# Altium integrated library ON Semi Signal Management Operational Amplifiers.IntLib: 435 symbols (part 8 of 12)
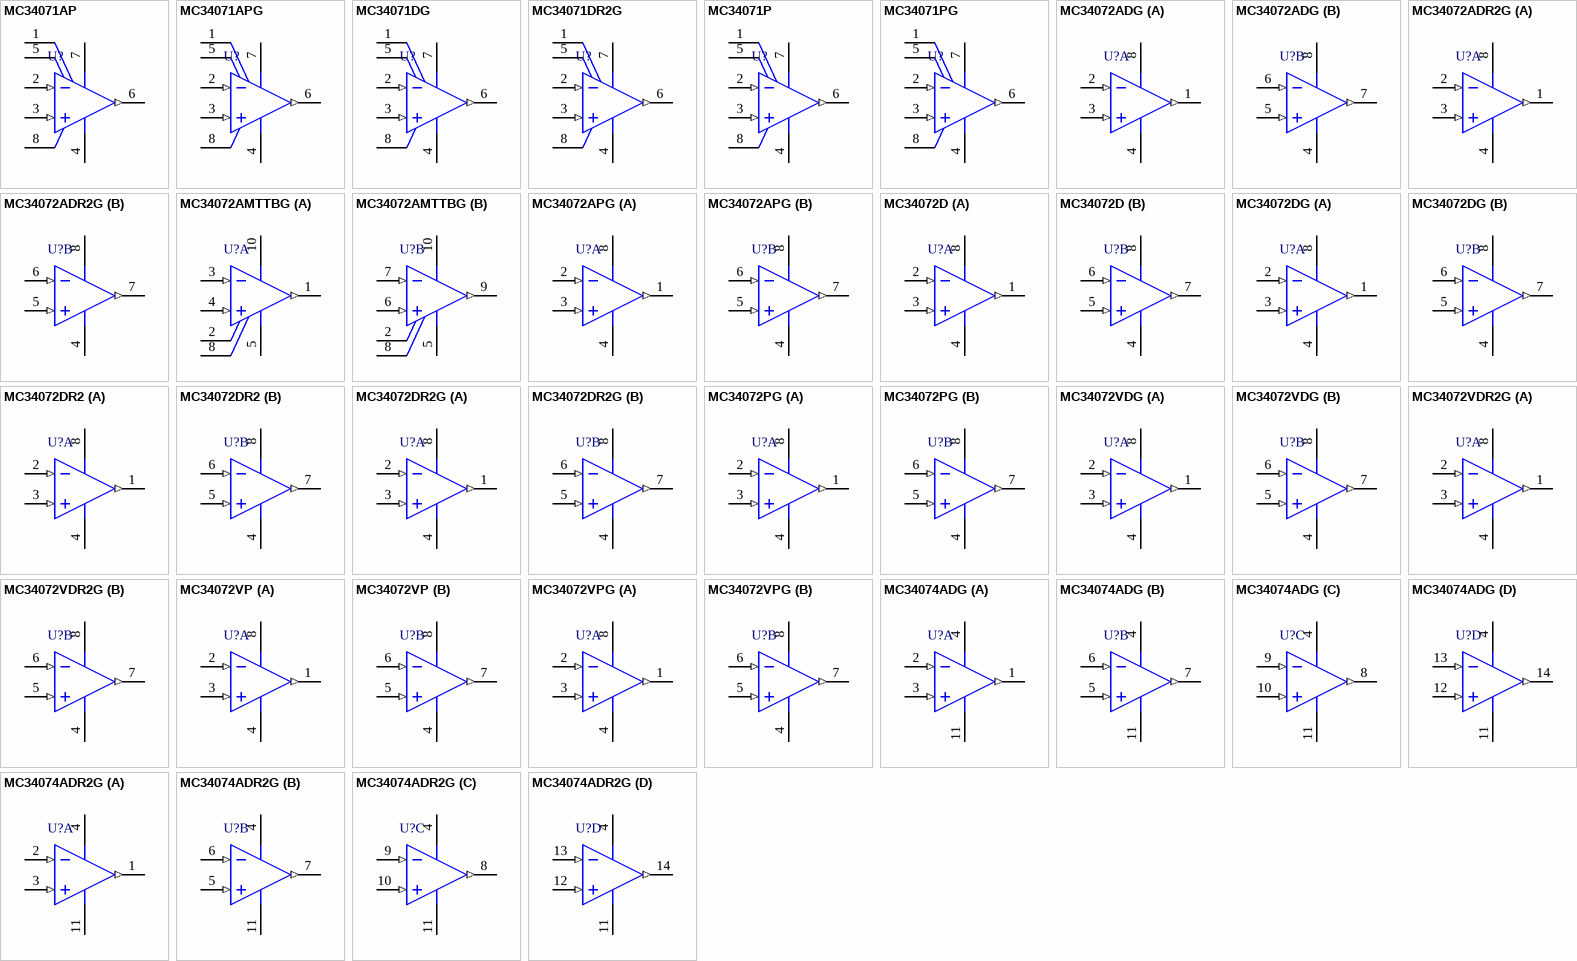
[diagram p32: symbols MC34071AP to MC34074ADR2G]

## MC34072DG
designator U?
Single Supply Operational Amplifier, 3 to 44 V, 0 to 70 degC, 8-Pin SOIC, Pb-Free, Tube; Manufacturer: On Semiconductor; PartNumber: MC34072DG; GBW Typ (MHz): 4.5; VCC Max (V): 44; VCC Min (V): 3; DatasheetVersion: Rev. 22; PackageVersion: Rev. AK, 02/2011; PackageReference: SOIC-8-751-07; PackageDescription: 8-Pin Small Outline Integrated Circuit, Body 4.9 x 3.9 mm, Pitch 1.27 mm; Supplier 1: Digi-Key; Supplier Part Number 1: MC34072DGOS-ND; Supplier 2: Farnell; Supplier Part Number 2: 9664416; Supplier 3: Newark; Supplier Part Number 3: 88H4732; Supplier 4: Mouser; Supplier Part Number 4: 863-MC34072DG; Packing: Tube; RoHS: TRUE; Mounting Technology: Surface Mount; ComponentLink1Description: Manufacturer URL; ComponentLink1URL: http://www.onsemi.com/; ComponentLink2Description: Datasheet; ComponentLink2URL: http://www.onsemi.cn/pub_link/Collateral/MC34071-D.PDF; ComponentLink3Description: Package Specification; ComponentLink3URL: http://www.onsemi.com/pub_link/Collateral/751-07.PDF
footprint ONSC-SOIC-8-751-07_V (SOIC, 8-Leads, Body 4.9x3.9mm, Pitch 1.27mm)
pins on every part: 4 VEE (power), 8 VCC (power)
part A pins: 1 OUT1 (out), 2 IN1- (in), 3 IN1+ (in)
part B pins: 5 IN2+ (in), 6 IN2- (in), 7 OUT2 (out)

## MC34072DR2
designator U?
Single Supply Operational Amplifier, 3 to 44 V, 0 to 70 degC, 8-Pin SOIC, Tape and Reel; Manufacturer: On Semiconductor; PartNumber: MC34072DR2; GBW Typ (MHz): 4.5; VCC Max (V): 44; VCC Min (V): 3; DatasheetVersion: Rev. 22; PackageVersion: Rev. AK, 02/2011; PackageReference: SOIC-8-751-07; PackageDescription: 8-Pin Small Outline Integrated Circuit, Body 4.9 x 3.9 mm, Pitch 1.27 mm; Supplier 1: Digi-Key; Supplier Part Number 1: MC34072DR2OSCT-ND; Packing: Tape and Reel; RoHS: FALSE; Mounting Technology: Surface Mount; ComponentLink1Description: Manufacturer URL; ComponentLink1URL: http://www.onsemi.com/; ComponentLink2Description: Datasheet; ComponentLink2URL: http://www.onsemi.cn/pub_link/Collateral/MC34071-D.PDF; ComponentLink3Description: Package Specification; ComponentLink3URL: http://www.onsemi.com/pub_link/Collateral/751-07.PDF
footprint ONSC-SOIC-8-751-07_V (SOIC, 8-Leads, Body 4.9x3.9mm, Pitch 1.27mm)
pins on every part: 4 VEE (power), 8 VCC (power)
part A pins: 1 OUT1 (out), 2 IN1- (in), 3 IN1+ (in)
part B pins: 5 IN2+ (in), 6 IN2- (in), 7 OUT2 (out)

## MC34072DR2G
designator U?
Single Supply Operational Amplifier, 3 to 44 V, 0 to 70 degC, 8-Pin SOIC, Pb-Free, Tape and Reel; Manufacturer: On Semiconductor; PartNumber: MC34072DR2G; GBW Typ (MHz): 4.5; VCC Max (V): 44; VCC Min (V): 3; DatasheetVersion: Rev. 22; PackageVersion: Rev. AK, 02/2011; PackageReference: SOIC-8-751-07; PackageDescription: 8-Pin Small Outline Integrated Circuit, Body 4.9 x 3.9 mm, Pitch 1.27 mm; Supplier 1: Digi-Key; Supplier Part Number 1: MC34072DR2GOSTR-ND; Supplier 2: Digi-Key; Supplier Part Number 2: MC34072DR2GOSCT-ND; Supplier 3: Digi-Key; Supplier Part Number 3: MC34072DR2GOSDKR-ND; Supplier 4: Farnell; Supplier Part Number 4: 1258880; Supplier 5: Mouser; Supplier Part Number 5: 863-MC34072DR2G; Packing: Tape and Reel; RoHS: TRUE; Mounting Technology: Surface Mount; ComponentLink1Description: Manufacturer URL; ComponentLink1URL: http://www.onsemi.com/; ComponentLink2Description: Datasheet; ComponentLink2URL: http://www.onsemi.cn/pub_link/Collateral/MC34071-D.PDF; ComponentLink3Description: Package Specification; ComponentLink3URL: http://www.onsemi.com/pub_link/Collateral/751-07.PDF
footprint ONSC-SOIC-8-751-07_V (SOIC, 8-Leads, Body 4.9x3.9mm, Pitch 1.27mm)
pins on every part: 4 VEE (power), 8 VCC (power)
part A pins: 1 OUT1 (out), 2 IN1- (in), 3 IN1+ (in)
part B pins: 5 IN2+ (in), 6 IN2- (in), 7 OUT2 (out)

## MC34072PG
designator U?
Single Supply Operational Amplifier, 3 to 44 V, 0 to 70 degC, 8-Pin PDIP, Pb-Free, Tube; Manufacturer: On Semiconductor; PartNumber: MC34072PG; GBW Typ (MHz): 4.5; VCC Max (V): 44; VCC Min (V): 3; DatasheetVersion: Rev. 22; PackageVersion: Rev. N, 06/2013; PackageReference: PDIP-8-626-05; PackageDescription: 8-Pin Plastic Dual-In Line Package, Body 9.59 x 6.605 mm, Pitch 2.54 mm; Supplier 1: Digi-Key; Supplier Part Number 1: MC34072PGOS-ND; Supplier 2: Farnell; Supplier Part Number 2: 1468745; Supplier 3: Newark; Supplier Part Number 3: 45J1217; Supplier 4: Mouser; Supplier Part Number 4: 863-MC34072PG; Packing: Tube; RoHS: TRUE; Mounting Technology: Through Hole; ComponentLink1Description: Manufacturer URL; ComponentLink1URL: http://www.onsemi.com/; ComponentLink2Description: Datasheet; ComponentLink2URL: http://www.onsemi.cn/pub_link/Collateral/MC34071-D.PDF; ComponentLink3Description: Package Specification; ComponentLink3URL: http://www.onsemi.cn/pub_link/Collateral/626-05.PDF
footprint ONSC-PDIP-8-626-05 (DIP, 8-Leads, Body 10.15x7.1mm, Pitch 2.54mm)
pins on every part: 4 VEE (power), 8 VCC (power)
part A pins: 1 OUT1 (out), 2 IN1- (in), 3 IN1+ (in)
part B pins: 5 IN2+ (in), 6 IN2- (in), 7 OUT2 (out)

## MC34072VDG
designator U?
Single Supply Operational Amplifier, 3 to 44 V, -40 to 125 degC, 8-Pin SOIC, Pb-Free, Tube; Manufacturer: On Semiconductor; PartNumber: MC34072VDG; GBW Typ (MHz): 4.5; VCC Max (V): 44; VCC Min (V): 3; DatasheetVersion: Rev. 22; PackageVersion: Rev. AK, 02/2011; PackageReference: SOIC-8-751-07; PackageDescription: 8-Pin Small Outline Integrated Circuit, Body 4.9 x 3.9 mm, Pitch 1.27 mm; Supplier 1: Digi-Key; Supplier Part Number 1: MC34072VDGOS-ND; Supplier 2: Newark; Supplier Part Number 2: 42K0652; Supplier 3: Mouser; Supplier Part Number 3: 863-MC34072VDG; Packing: Tube; RoHS: TRUE; Mounting Technology: Surface Mount; ComponentLink1Description: Manufacturer URL; ComponentLink1URL: http://www.onsemi.com/; ComponentLink2Description: Datasheet; ComponentLink2URL: http://www.onsemi.cn/pub_link/Collateral/MC34071-D.PDF; ComponentLink3Description: Package Specification; ComponentLink3URL: http://www.onsemi.com/pub_link/Collateral/751-07.PDF
footprint ONSC-SOIC-8-751-07_V (SOIC, 8-Leads, Body 4.9x3.9mm, Pitch 1.27mm)
pins on every part: 4 VEE (power), 8 VCC (power)
part A pins: 1 OUT1 (out), 2 IN1- (in), 3 IN1+ (in)
part B pins: 5 IN2+ (in), 6 IN2- (in), 7 OUT2 (out)

## MC34072VDR2G
designator U?
Single Supply Operational Amplifier, 3 to 44 V, -40 to 125 degC, 8-Pin SOIC, Pb-Free, Tape and Reel; Manufacturer: On Semiconductor; PartNumber: MC34072VDR2G; GBW Typ (MHz): 4.5; VCC Max (V): 44; VCC Min (V): 3; DatasheetVersion: Rev. 22; PackageVersion: Rev. AK, 02/2011; PackageReference: SOIC-8-751-07; PackageDescription: 8-Pin Small Outline Integrated Circuit, Body 4.9 x 3.9 mm, Pitch 1.27 mm; Supplier 1: Digi-Key; Supplier Part Number 1: MC34072VDR2GOSTR-ND; Supplier 2: Digi-Key; Supplier Part Number 2: MC34072VDR2GOSCT-ND; Supplier 3: Digi-Key; Supplier Part Number 3: MC34072VDR2GOSDKR-ND; Supplier 4: Mouser; Supplier Part Number 4: 863-MC34072VDR2G; Packing: Tape and Reel; RoHS: TRUE; Mounting Technology: Surface Mount; ComponentLink1Description: Manufacturer URL; ComponentLink1URL: http://www.onsemi.com/; ComponentLink2Description: Datasheet; ComponentLink2URL: http://www.onsemi.cn/pub_link/Collateral/MC34071-D.PDF; ComponentLink3Description: Package Specification; ComponentLink3URL: http://www.onsemi.com/pub_link/Collateral/751-07.PDF
footprint ONSC-SOIC-8-751-07_V (SOIC, 8-Leads, Body 4.9x3.9mm, Pitch 1.27mm)
pins on every part: 4 VEE (power), 8 VCC (power)
part A pins: 1 OUT1 (out), 2 IN1- (in), 3 IN1+ (in)
part B pins: 5 IN2+ (in), 6 IN2- (in), 7 OUT2 (out)

## MC34072VP
designator U?
Single Supply Operational Amplifier, 3 to 44 V, -40 to 125 degC, 8-Pin PDIP, Tube; Manufacturer: On Semiconductor; PartNumber: MC34072VP; GBW Typ (MHz): 4.5; VCC Max (V): 44; VCC Min (V): 3; DatasheetVersion: Rev. 22; PackageVersion: Rev. N, 06/2013; PackageReference: PDIP-8-626-05; PackageDescription: 8-Pin Plastic Dual-In Line Package, Body 9.59 x 6.605 mm, Pitch 2.54 mm; Packing: Tube; RoHS: FALSE; Mounting Technology: Through Hole; ComponentLink1Description: Manufacturer URL; ComponentLink1URL: http://www.onsemi.com/; ComponentLink2Description: Datasheet; ComponentLink2URL: http://www.onsemi.cn/pub_link/Collateral/MC34071-D.PDF; ComponentLink3Description: Package Specification; ComponentLink3URL: http://www.onsemi.cn/pub_link/Collateral/626-05.PDF
footprint ONSC-PDIP-8-626-05 (DIP, 8-Leads, Body 10.15x7.1mm, Pitch 2.54mm)
pins on every part: 4 VEE (power), 8 VCC (power)
part A pins: 1 OUT1 (out), 2 IN1- (in), 3 IN1+ (in)
part B pins: 5 IN2+ (in), 6 IN2- (in), 7 OUT2 (out)

## MC34072VPG
designator U?
Single Supply Operational Amplifier, 3 to 44 V, -40 to 125 degC, 8-Pin PDIP, Pb-Free, Tube; Manufacturer: On Semiconductor; PartNumber: MC34072VPG; GBW Typ (MHz): 4.5; VCC Max (V): 44; VCC Min (V): 3; DatasheetVersion: Rev. 22; PackageVersion: Rev. N, 06/2013; PackageReference: PDIP-8-626-05; PackageDescription: 8-Pin Plastic Dual-In Line Package, Body 9.59 x 6.605 mm, Pitch 2.54 mm; Supplier 1: Digi-Key; Supplier Part Number 1: MC34072VPGOS-ND; Supplier 2: Mouser; Supplier Part Number 2: 863-MC34072VPG; Packing: Tube; RoHS: TRUE; Mounting Technology: Through Hole; ComponentLink1Description: Manufacturer URL; ComponentLink1URL: http://www.onsemi.com/; ComponentLink2Description: Datasheet; ComponentLink2URL: http://www.onsemi.cn/pub_link/Collateral/MC34071-D.PDF; ComponentLink3Description: Package Specification; ComponentLink3URL: http://www.onsemi.cn/pub_link/Collateral/626-05.PDF
footprint ONSC-PDIP-8-626-05 (DIP, 8-Leads, Body 10.15x7.1mm, Pitch 2.54mm)
pins on every part: 4 VEE (power), 8 VCC (power)
part A pins: 1 OUT1 (out), 2 IN1- (in), 3 IN1+ (in)
part B pins: 5 IN2+ (in), 6 IN2- (in), 7 OUT2 (out)

## MC34074ADG
designator U?
Single Supply Operational Amplifier, 3 to 44 V, 0 to 70 degC, 14-Pin SOIC, Pb-Free, Tube; Manufacturer: On Semiconductor; PartNumber: MC34074ADG; GBW Typ (MHz): 4.5; VCC Max (V): 44; VCC Min (V): 3; DatasheetVersion: Rev. 22; PackageVersion: Rev. K, 05/2011; PackageReference: SOIC-14-751A-03; PackageDescription: 14-Pin Small Outline Integrated Circuit, Body 8.65 x 3.9 mm, Pitch 1.27 mm; Supplier 1: Digi-Key; Supplier Part Number 1: MC34074ADGOS-ND; Supplier 2: Farnell; Supplier Part Number 2: 1426373; Supplier 3: Newark; Supplier Part Number 3: 45J1218; Supplier 4: Mouser; Supplier Part Number 4: 863-MC34074ADG; Packing: Tube; RoHS: TRUE; Mounting Technology: Surface Mount; ComponentLink1Description: Manufacturer URL; ComponentLink1URL: http://www.onsemi.com/; ComponentLink2Description: Datasheet; ComponentLink2URL: http://www.onsemi.cn/pub_link/Collateral/MC34071-D.PDF; ComponentLink3Description: Package Specification; ComponentLink3URL: http://www.onsemi.com/pub_link/Collateral/751A-03.PDF
footprint ONSC-SOIC-14-751A-03_V (SOIC, 14-Leads, Body 8.75x4mm, Pitch 1.27mm)
pins on every part: 4 VCC (power), 11 VEE (power)
part A pins: 1 OUT1 (out), 2 IN1- (in), 3 IN1+ (in)
part B pins: 5 IN2+ (in), 6 IN2- (in), 7 OUT2 (out)
part C pins: 8 OUT3 (out), 9 IN3- (in), 10 IN3+ (in)
part D pins: 12 IN4+ (in), 13 IN4- (in), 14 OUT4 (out)

## MC34074ADR2G
designator U?
Single Supply Operational Amplifier, 3 to 44 V, 0 to 70 degC, 14-Pin SOIC, Pb-Free, Tape and Reel; Manufacturer: On Semiconductor; PartNumber: MC34074ADR2G; GBW Typ (MHz): 4.5; VCC Max (V): 44; VCC Min (V): 3; DatasheetVersion: Rev. 22; PackageVersion: Rev. K, 05/2011; PackageReference: SOIC-14-751A-03; PackageDescription: 14-Pin Small Outline Integrated Circuit, Body 8.65 x 3.9 mm, Pitch 1.27 mm; Supplier 1: Digi-Key; Supplier Part Number 1: MC34074ADR2GOSTR-ND; Supplier 2: Digi-Key; Supplier Part Number 2: MC34074ADR2GOSCT-ND; Supplier 3: Digi-Key; Supplier Part Number 3: MC34074ADR2GOSDKR-ND; Supplier 4: Newark; Supplier Part Number 4: 45J1219; Supplier 5: Mouser; Supplier Part Number 5: 863-MC34074ADR2G; Packing: Tape and Reel; RoHS: TRUE; Mounting Technology: Surface Mount; ComponentLink1Description: Manufacturer URL; ComponentLink1URL: http://www.onsemi.com/; ComponentLink2Description: Datasheet; ComponentLink2URL: http://www.onsemi.cn/pub_link/Collateral/MC34071-D.PDF; ComponentLink3Description: Package Specification; ComponentLink3URL: http://www.onsemi.com/pub_link/Collateral/751A-03.PDF
footprint ONSC-SOIC-14-751A-03_V (SOIC, 14-Leads, Body 8.75x4mm, Pitch 1.27mm)
pins on every part: 4 VCC (power), 11 VEE (power)
part A pins: 1 OUT1 (out), 2 IN1- (in), 3 IN1+ (in)
part B pins: 5 IN2+ (in), 6 IN2- (in), 7 OUT2 (out)
part C pins: 8 OUT3 (out), 9 IN3- (in), 10 IN3+ (in)
part D pins: 12 IN4+ (in), 13 IN4- (in), 14 OUT4 (out)

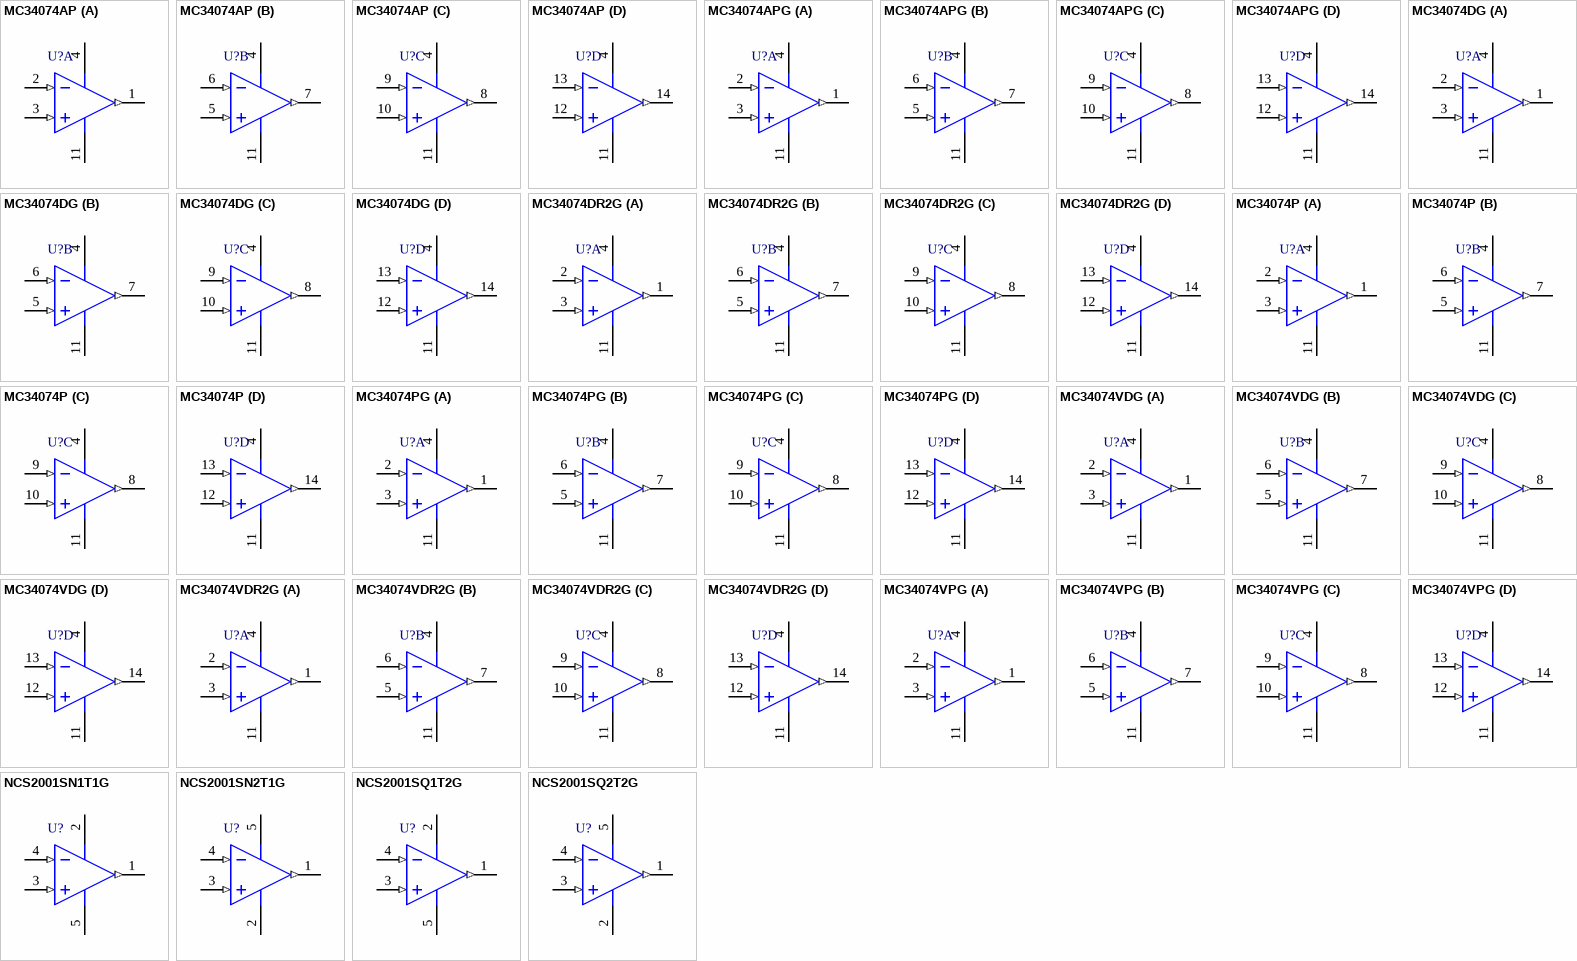
[diagram p18: symbols MC34074AP to NCS2001SQ2T2G]

## MC34074AP
designator U?
Single Supply Operational Amplifier, 3 to 44 V, 0 to 70 degC, 14-Pin PDIP, Tube; Manufacturer: On Semiconductor; PartNumber: MC34074AP; GBW Typ (MHz): 4.5; VCC Max (V): 44; VCC Min (V): 3; DatasheetVersion: Rev. 22; PackageVersion: Rev. R, 06/2013; PackageReference: PDIP-14-646-06; PackageDescription: 14-Pin Plastic Dual-In Line Package, Body 19.18 x 6.605 mm, Pitch 2.54 mm; Packing: Tube; RoHS: FALSE; Mounting Technology: Through Hole; ComponentLink1Description: Manufacturer URL; ComponentLink1URL: http://www.onsemi.com/; ComponentLink2Description: Datasheet; ComponentLink2URL: http://www.onsemi.cn/pub_link/Collateral/MC34071-D.PDF; ComponentLink3Description: Package Specification; ComponentLink3URL: http://www.onsemi.com/pub_link/Collateral/646-06.PDF
footprint ONSC-PDIP-14-646-06 (DIP, 14-Leads, Body 19.7x7.1mm, Pitch 2.54mm)
pins on every part: 4 VCC (power), 11 VEE (power)
part A pins: 1 OUT1 (out), 2 IN1- (in), 3 IN1+ (in)
part B pins: 5 IN2+ (in), 6 IN2- (in), 7 OUT2 (out)
part C pins: 8 OUT3 (out), 9 IN3- (in), 10 IN3+ (in)
part D pins: 12 IN4+ (in), 13 IN4- (in), 14 OUT4 (out)

## MC34074APG
designator U?
Single Supply Operational Amplifier, 3 to 44 V, 0 to 70 degC, 14-Pin PDIP, Pb-Free, Tube; Manufacturer: On Semiconductor; PartNumber: MC34074APG; GBW Typ (MHz): 4.5; VCC Max (V): 44; VCC Min (V): 3; DatasheetVersion: Rev. 22; PackageVersion: Rev. R, 06/2013; PackageReference: PDIP-14-646-06; PackageDescription: 14-Pin Plastic Dual-In Line Package, Body 19.18 x 6.605 mm, Pitch 2.54 mm; Supplier 1: Digi-Key; Supplier Part Number 1: MC34074APGOS-ND; Supplier 2: Farnell; Supplier Part Number 2: 1468746; Supplier 3: Newark; Supplier Part Number 3: 42K0653; Supplier 4: Mouser; Supplier Part Number 4: 863-MC34074APG; Packing: Tube; RoHS: TRUE; Mounting Technology: Through Hole; ComponentLink1Description: Manufacturer URL; ComponentLink1URL: http://www.onsemi.com/; ComponentLink2Description: Datasheet; ComponentLink2URL: http://www.onsemi.cn/pub_link/Collateral/MC34071-D.PDF; ComponentLink3Description: Package Specification; ComponentLink3URL: http://www.onsemi.com/pub_link/Collateral/646-06.PDF
footprint ONSC-PDIP-14-646-06 (DIP, 14-Leads, Body 19.7x7.1mm, Pitch 2.54mm)
pins on every part: 4 VCC (power), 11 VEE (power)
part A pins: 1 OUT1 (out), 2 IN1- (in), 3 IN1+ (in)
part B pins: 5 IN2+ (in), 6 IN2- (in), 7 OUT2 (out)
part C pins: 8 OUT3 (out), 9 IN3- (in), 10 IN3+ (in)
part D pins: 12 IN4+ (in), 13 IN4- (in), 14 OUT4 (out)

## MC34074DG
designator U?
Single Supply Operational Amplifier, 3 to 44 V, 0 to 70 degC, 14-Pin SOIC, Pb-Free, Tube; Manufacturer: On Semiconductor; PartNumber: MC34074DG; GBW Typ (MHz): 4.5; VCC Max (V): 44; VCC Min (V): 3; DatasheetVersion: Rev. 22; PackageVersion: Rev. K, 05/2011; PackageReference: SOIC-14-751A-03; PackageDescription: 14-Pin Small Outline Integrated Circuit, Body 8.65 x 3.9 mm, Pitch 1.27 mm; Supplier 1: Digi-Key; Supplier Part Number 1: MC34074DGOS-ND; Supplier 2: Farnell; Supplier Part Number 2: 1426372; Supplier 3: Mouser; Supplier Part Number 3: 863-MC34074DG; Packing: Tube; RoHS: TRUE; Mounting Technology: Surface Mount; ComponentLink1Description: Manufacturer URL; ComponentLink1URL: http://www.onsemi.com/; ComponentLink2Description: Datasheet; ComponentLink2URL: http://www.onsemi.cn/pub_link/Collateral/MC34071-D.PDF; ComponentLink3Description: Package Specification; ComponentLink3URL: http://www.onsemi.com/pub_link/Collateral/751A-03.PDF
footprint ONSC-SOIC-14-751A-03_V (SOIC, 14-Leads, Body 8.75x4mm, Pitch 1.27mm)
pins on every part: 4 VCC (power), 11 VEE (power)
part A pins: 1 OUT1 (out), 2 IN1- (in), 3 IN1+ (in)
part B pins: 5 IN2+ (in), 6 IN2- (in), 7 OUT2 (out)
part C pins: 8 OUT3 (out), 9 IN3- (in), 10 IN3+ (in)
part D pins: 12 IN4+ (in), 13 IN4- (in), 14 OUT4 (out)

## MC34074DR2G
designator U?
Single Supply Operational Amplifier, 3 to 44 V, 0 to 70 degC, 14-Pin SOIC, Pb-Free, Tape and Reel; Manufacturer: On Semiconductor; PartNumber: MC34074DR2G; GBW Typ (MHz): 4.5; VCC Max (V): 44; VCC Min (V): 3; DatasheetVersion: Rev. 22; PackageVersion: Rev. K, 05/2011; PackageReference: SOIC-14-751A-03; PackageDescription: 14-Pin Small Outline Integrated Circuit, Body 8.65 x 3.9 mm, Pitch 1.27 mm; Supplier 1: Digi-Key; Supplier Part Number 1: MC34074DR2GOSTR-ND; Supplier 2: Digi-Key; Supplier Part Number 2: MC34074DR2GOSCT-ND; Supplier 3: Digi-Key; Supplier Part Number 3: MC34074DR2GOSDKR-ND; Supplier 4: Newark; Supplier Part Number 4: 84K8763; Supplier 5: Mouser; Supplier Part Number 5: 863-MC34074DR2G; Packing: Tape and Reel; RoHS: TRUE; Mounting Technology: Surface Mount; ComponentLink1Description: Manufacturer URL; ComponentLink1URL: http://www.onsemi.com/; ComponentLink2Description: Datasheet; ComponentLink2URL: http://www.onsemi.cn/pub_link/Collateral/MC34071-D.PDF; ComponentLink3Description: Package Specification; ComponentLink3URL: http://www.onsemi.com/pub_link/Collateral/751A-03.PDF
footprint ONSC-SOIC-14-751A-03_V (SOIC, 14-Leads, Body 8.75x4mm, Pitch 1.27mm)
pins on every part: 4 VCC (power), 11 VEE (power)
part A pins: 1 OUT1 (out), 2 IN1- (in), 3 IN1+ (in)
part B pins: 5 IN2+ (in), 6 IN2- (in), 7 OUT2 (out)
part C pins: 8 OUT3 (out), 9 IN3- (in), 10 IN3+ (in)
part D pins: 12 IN4+ (in), 13 IN4- (in), 14 OUT4 (out)

## MC34074P
designator U?
Single Supply Operational Amplifier, 3 to 44 V, 0 to 70 degC, 14-Pin PDIP, Tube; Manufacturer: On Semiconductor; PartNumber: MC34074P; GBW Typ (MHz): 4.5; VCC Max (V): 44; VCC Min (V): 3; DatasheetVersion: Rev. 22; PackageVersion: Rev. R, 06/2013; PackageReference: PDIP-14-646-06; PackageDescription: 14-Pin Plastic Dual-In Line Package, Body 19.18 x 6.605 mm, Pitch 2.54 mm; Packing: Tube; RoHS: FALSE; Mounting Technology: Through Hole; ComponentLink1Description: Manufacturer URL; ComponentLink1URL: http://www.onsemi.com/; ComponentLink2Description: Datasheet; ComponentLink2URL: http://www.onsemi.cn/pub_link/Collateral/MC34071-D.PDF; ComponentLink3Description: Package Specification; ComponentLink3URL: http://www.onsemi.com/pub_link/Collateral/646-06.PDF
footprint ONSC-PDIP-14-646-06 (DIP, 14-Leads, Body 19.7x7.1mm, Pitch 2.54mm)
pins on every part: 4 VCC (power), 11 VEE (power)
part A pins: 1 OUT1 (out), 2 IN1- (in), 3 IN1+ (in)
part B pins: 5 IN2+ (in), 6 IN2- (in), 7 OUT2 (out)
part C pins: 8 OUT3 (out), 9 IN3- (in), 10 IN3+ (in)
part D pins: 12 IN4+ (in), 13 IN4- (in), 14 OUT4 (out)

## MC34074PG
designator U?
Single Supply Operational Amplifier, 3 to 44 V, 0 to 70 degC, 14-Pin PDIP, Pb-Free, Tube; Manufacturer: On Semiconductor; PartNumber: MC34074PG; GBW Typ (MHz): 4.5; VCC Max (V): 44; VCC Min (V): 3; DatasheetVersion: Rev. 22; PackageVersion: Rev. R, 06/2013; PackageReference: PDIP-14-646-06; PackageDescription: 14-Pin Plastic Dual-In Line Package, Body 19.18 x 6.605 mm, Pitch 2.54 mm; Supplier 1: Digi-Key; Supplier Part Number 1: MC34074PGOS-ND; Supplier 2: Farnell; Supplier Part Number 2: 1651876; Supplier 3: Newark; Supplier Part Number 3: 45J1220; Supplier 4: Mouser; Supplier Part Number 4: 863-MC34074PG; Packing: Tube; RoHS: TRUE; Mounting Technology: Through Hole; ComponentLink1Description: Manufacturer URL; ComponentLink1URL: http://www.onsemi.com/; ComponentLink2Description: Datasheet; ComponentLink2URL: http://www.onsemi.cn/pub_link/Collateral/MC34071-D.PDF; ComponentLink3Description: Package Specification; ComponentLink3URL: http://www.onsemi.com/pub_link/Collateral/646-06.PDF
footprint ONSC-PDIP-14-646-06 (DIP, 14-Leads, Body 19.7x7.1mm, Pitch 2.54mm)
pins on every part: 4 VCC (power), 11 VEE (power)
part A pins: 1 OUT1 (out), 2 IN1- (in), 3 IN1+ (in)
part B pins: 5 IN2+ (in), 6 IN2- (in), 7 OUT2 (out)
part C pins: 8 OUT3 (out), 9 IN3- (in), 10 IN3+ (in)
part D pins: 12 IN4+ (in), 13 IN4- (in), 14 OUT4 (out)

## MC34074VDG
designator U?
Single Supply Operational Amplifier, 3 to 44 V, -40 to 125 degC, 14-Pin SOIC, Pb-Free, Tube; Manufacturer: On Semiconductor; PartNumber: MC34074VDG; GBW Typ (MHz): 4.5; VCC Max (V): 44; VCC Min (V): 3; DatasheetVersion: Rev. 22; PackageVersion: Rev. K, 05/2011; PackageReference: SOIC-14-751A-03; PackageDescription: 14-Pin Small Outline Integrated Circuit, Body 8.65 x 3.9 mm, Pitch 1.27 mm; Supplier 1: Digi-Key; Supplier Part Number 1: MC34074VDGOS-ND; Supplier 2: Newark; Supplier Part Number 2: 98H0700; Supplier 3: Mouser; Supplier Part Number 3: 863-MC34074VDG; Packing: Tube; RoHS: TRUE; Mounting Technology: Surface Mount; ComponentLink1Description: Manufacturer URL; ComponentLink1URL: http://www.onsemi.com/; ComponentLink2Description: Datasheet; ComponentLink2URL: http://www.onsemi.cn/pub_link/Collateral/MC34071-D.PDF; ComponentLink3Description: Package Specification; ComponentLink3URL: http://www.onsemi.com/pub_link/Collateral/751A-03.PDF
footprint ONSC-SOIC-14-751A-03_V (SOIC, 14-Leads, Body 8.75x4mm, Pitch 1.27mm)
pins on every part: 4 VCC (power), 11 VEE (power)
part A pins: 1 OUT1 (out), 2 IN1- (in), 3 IN1+ (in)
part B pins: 5 IN2+ (in), 6 IN2- (in), 7 OUT2 (out)
part C pins: 8 OUT3 (out), 9 IN3- (in), 10 IN3+ (in)
part D pins: 12 IN4+ (in), 13 IN4- (in), 14 OUT4 (out)

## MC34074VDR2G
designator U?
Single Supply Operational Amplifier, 3 to 44 V, -40 to 125 degC, 14-Pin SOIC, Pb-Free, Tape and Reel; Manufacturer: On Semiconductor; PartNumber: MC34074VDR2G; GBW Typ (MHz): 4.5; VCC Max (V): 44; VCC Min (V): 3; DatasheetVersion: Rev. 22; PackageVersion: Rev. K, 05/2011; PackageReference: SOIC-14-751A-03; PackageDescription: 14-Pin Small Outline Integrated Circuit, Body 8.65 x 3.9 mm, Pitch 1.27 mm; Supplier 1: Digi-Key; Supplier Part Number 1: MC34074VDR2G-ND; Supplier 2: Newark; Supplier Part Number 2: 26K4045; Supplier 3: Mouser; Supplier Part Number 3: 863-MC34074VDR2G; Packing: Tape and Reel; RoHS: TRUE; Mounting Technology: Surface Mount; ComponentLink1Description: Manufacturer URL; ComponentLink1URL: http://www.onsemi.com/; ComponentLink2Description: Datasheet; ComponentLink2URL: http://www.onsemi.cn/pub_link/Collateral/MC34071-D.PDF; ComponentLink3Description: Package Specification; ComponentLink3URL: http://www.onsemi.com/pub_link/Collateral/751A-03.PDF
footprint ONSC-SOIC-14-751A-03_V (SOIC, 14-Leads, Body 8.75x4mm, Pitch 1.27mm)
pins on every part: 4 VCC (power), 11 VEE (power)
part A pins: 1 OUT1 (out), 2 IN1- (in), 3 IN1+ (in)
part B pins: 5 IN2+ (in), 6 IN2- (in), 7 OUT2 (out)
part C pins: 8 OUT3 (out), 9 IN3- (in), 10 IN3+ (in)
part D pins: 12 IN4+ (in), 13 IN4- (in), 14 OUT4 (out)

## MC34074VPG
designator U?
Single Supply Operational Amplifier, 3 to 44 V, -40 to 125 degC, 14-Pin PDIP, Pb-Free, Tube; Manufacturer: On Semiconductor; PartNumber: MC34074VPG; GBW Typ (MHz): 4.5; VCC Max (V): 44; VCC Min (V): 3; DatasheetVersion: Rev. 22; PackageVersion: Rev. R, 06/2013; PackageReference: PDIP-14-646-06; PackageDescription: 14-Pin Plastic Dual-In Line Package, Body 19.18 x 6.605 mm, Pitch 2.54 mm; Supplier 1: Digi-Key; Supplier Part Number 1: MC34074VPGOS-ND; Supplier 2: Farnell; Supplier Part Number 2: 1705800; Supplier 3: Newark; Supplier Part Number 3: 26K4046; Supplier 4: Mouser; Supplier Part Number 4: 863-MC34074VPG; Packing: Tube; RoHS: TRUE; Mounting Technology: Through Hole; ComponentLink1Description: Manufacturer URL; ComponentLink1URL: http://www.onsemi.com/; ComponentLink2Description: Datasheet; ComponentLink2URL: http://www.onsemi.cn/pub_link/Collateral/MC34071-D.PDF; ComponentLink3Description: Package Specification; ComponentLink3URL: http://www.onsemi.com/pub_link/Collateral/646-06.PDF
footprint ONSC-PDIP-14-646-06 (DIP, 14-Leads, Body 19.7x7.1mm, Pitch 2.54mm)
pins on every part: 4 VCC (power), 11 VEE (power)
part A pins: 1 OUT1 (out), 2 IN1- (in), 3 IN1+ (in)
part B pins: 5 IN2+ (in), 6 IN2- (in), 7 OUT2 (out)
part C pins: 8 OUT3 (out), 9 IN3- (in), 10 IN3+ (in)
part D pins: 12 IN4+ (in), 13 IN4- (in), 14 OUT4 (out)

## NCS2001SN1T1G
designator U?
Rail-to-Rail, Single Operational Amplifier, 0.9 to 7 V, -40 to 105 degC, 5-Pin TSOP, Pb-Free, Tape and Reel; Manufacturer: On Semiconductor; PartNumber: NCS2001SN1T1G; SR Typ (V/uS): 1.6; VCC Max (V): 7; VCC Min (V): 0.9; DatasheetVersion: Rev. 17; PackageVersion: Rev. K, 04/2013; PackageReference: TSOP-5-483-02; PackageDescription: 5-Pin Small Outline Package, Body 3 x 1.5 mm, Pitch 0.95 mm; Supplier 1: Digi-Key; Supplier Part Number 1: NCS2001SN1T1GOSTR-ND; Supplier 2: Digi-Key; Supplier Part Number 2: NCS2001SN1T1GOSCT-ND; Supplier 3: Digi-Key; Supplier Part Number 3: NCS2001SN1T1GOSDKR-ND; Supplier 4: Farnell; Supplier Part Number 4: 1364638; Supplier 5: Newark; Supplier Part Number 5: 45J1978; Supplier 6: Mouser; Supplier Part Number 6: 863-NCS2001SN1T1G; Packing: Tape and Reel; RoHS: TRUE; Mounting Technology: Surface Mount; ComponentLink1Description: Manufacturer URL; ComponentLink1URL: http://www.onsemi.com/; ComponentLink2Description: Datasheet; ComponentLink2URL: http://www.onsemi.cn/pub_link/Collateral/NCS2001-D.PDF; ComponentLink3Description: Package Specification; ComponentLink3URL: http://www.onsemi.com/pub_link/Collateral/483.PDF
footprint ONSC-TSOP-5-483-02_V (SOP, 5-Leads, Body 3x1.5mm, Pitch 0.95mm)
pins: 1 VOUT (out), 2 VCC (power), 3 IN+ (in), 4 IN- (in), 5 VEE (power)

## NCS2001SN2T1G
designator U?
Rail-to-Rail, Single Operational Amplifier, 0.9 to 7 V, -40 to 105 degC, 5-Pin TSOP, Pb-Free, Tape and Reel; Manufacturer: On Semiconductor; PartNumber: NCS2001SN2T1G; SR Typ (V/uS): 1.6; VCC Max (V): 7; VCC Min (V): 0.9; DatasheetVersion: Rev. 17; PackageVersion: Rev. K, 04/2013; PackageReference: TSOP-5-483-02; PackageDescription: 5-Pin Small Outline Package, Body 3 x 1.5 mm, Pitch 0.95 mm; Supplier 1: Digi-Key; Supplier Part Number 1: NCS2001SN2T1GOSTR-ND; Supplier 2: Digi-Key; Supplier Part Number 2: NCS2001SN2T1GOSCT-ND; Supplier 3: Newark; Supplier Part Number 3: 26K4984; Supplier 4: Mouser; Supplier Part Number 4: 863-NCS2001SN2T1G; Packing: Tape and Reel; RoHS: TRUE; Mounting Technology: Surface Mount; ComponentLink1Description: Manufacturer URL; ComponentLink1URL: http://www.onsemi.com/; ComponentLink2Description: Datasheet; ComponentLink2URL: http://www.onsemi.cn/pub_link/Collateral/NCS2001-D.PDF; ComponentLink3Description: Package Specification; ComponentLink3URL: http://www.onsemi.com/pub_link/Collateral/483.PDF
footprint ONSC-TSOP-5-483-02_V (SOP, 5-Leads, Body 3x1.5mm, Pitch 0.95mm)
pins: 1 VOUT (out), 2 VEE (power), 3 IN+ (in), 4 IN- (in), 5 VCC (power)

## NCS2001SQ1T2G
designator U?
Rail-to-Rail, Single Operational Amplifier, 0.9 to 7 V, -40 to 105 degC, 5-Pin SC70, Pb-Free, Tape and Reel; Manufacturer: On Semiconductor; PartNumber: NCS2001SQ1T2G; SR Typ (V/uS): 1.6; VCC Max (V): 7; VCC Min (V): 0.9; DatasheetVersion: Rev. 17; PackageVersion: Rev. L, 01/2013; PackageReference: SC70-5-419A-02; PackageDescription: 5-Pin Small Outline Transistor, Body 2 x 1.25 mm, Pitch 0.65 mm; Supplier 1: Digi-Key; Supplier Part Number 1: NCS2001SQ1T2GOSTR-ND; Supplier 2: Digi-Key; Supplier Part Number 2: NCS2001SQ1T2GOSCT-ND; Supplier 3: Mouser; Supplier Part Number 3: 863-NCS2001SQ1T2G; Packing: Tape and Reel; RoHS: TRUE; Mounting Technology: Surface Mount; ComponentLink1Description: Manufacturer URL; ComponentLink1URL: http://www.onsemi.com/; ComponentLink2Description: Datasheet; ComponentLink2URL: http://www.onsemi.cn/pub_link/Collateral/NCS2001-D.PDF; ComponentLink3Description: Package Specification; ComponentLink3URL: http://www.onsemi.cn/pub_link/Collateral/419A-02.PDF
footprint ONSC-SC70-5-419A-02_V (SOT23, 5-Leads, Body 2x1.25mm, Pitch 0.65mm)
pins: 1 VOUT (out), 2 VCC (power), 3 IN+ (in), 4 IN- (in), 5 VEE (power)

## NCS2001SQ2T2G
designator U?
Rail-to-Rail, Single Operational Amplifier, 0.9 to 7 V, -40 to 105 degC, 5-Pin SC70, Pb-Free, Tape and Reel; Manufacturer: On Semiconductor; PartNumber: NCS2001SQ2T2G; SR Typ (V/uS): 1.6; VCC Max (V): 7; VCC Min (V): 0.9; DatasheetVersion: Rev. 17; PackageVersion: Rev. L, 01/2013; PackageReference: SC70-5-419A-02; PackageDescription: 5-Pin Small Outline Transistor, Body 2 x 1.25 mm, Pitch 0.65 mm; Supplier 1: Digi-Key; Supplier Part Number 1: NCS2001SQ2T2GOSTR-ND; Supplier 2: Digi-Key; Supplier Part Number 2: NCS2001SQ2T2GOSCT-ND; Supplier 3: Digi-Key; Supplier Part Number 3: NCS2001SQ2T2GOSDKR-ND; Supplier 4: Mouser; Supplier Part Number 4: 863-NCS2001SQ2T2G; Packing: Tape and Reel; RoHS: TRUE; Mounting Technology: Surface Mount; ComponentLink1Description: Manufacturer URL; ComponentLink1URL: http://www.onsemi.com/; ComponentLink2Description: Datasheet; ComponentLink2URL: http://www.onsemi.cn/pub_link/Collateral/NCS2001-D.PDF; ComponentLink3Description: Package Specification; ComponentLink3URL: http://www.onsemi.cn/pub_link/Collateral/419A-02.PDF
footprint ONSC-SC70-5-419A-02_V (SOT23, 5-Leads, Body 2x1.25mm, Pitch 0.65mm)
pins: 1 VOUT (out), 2 VEE (power), 3 IN+ (in), 4 IN- (in), 5 VCC (power)

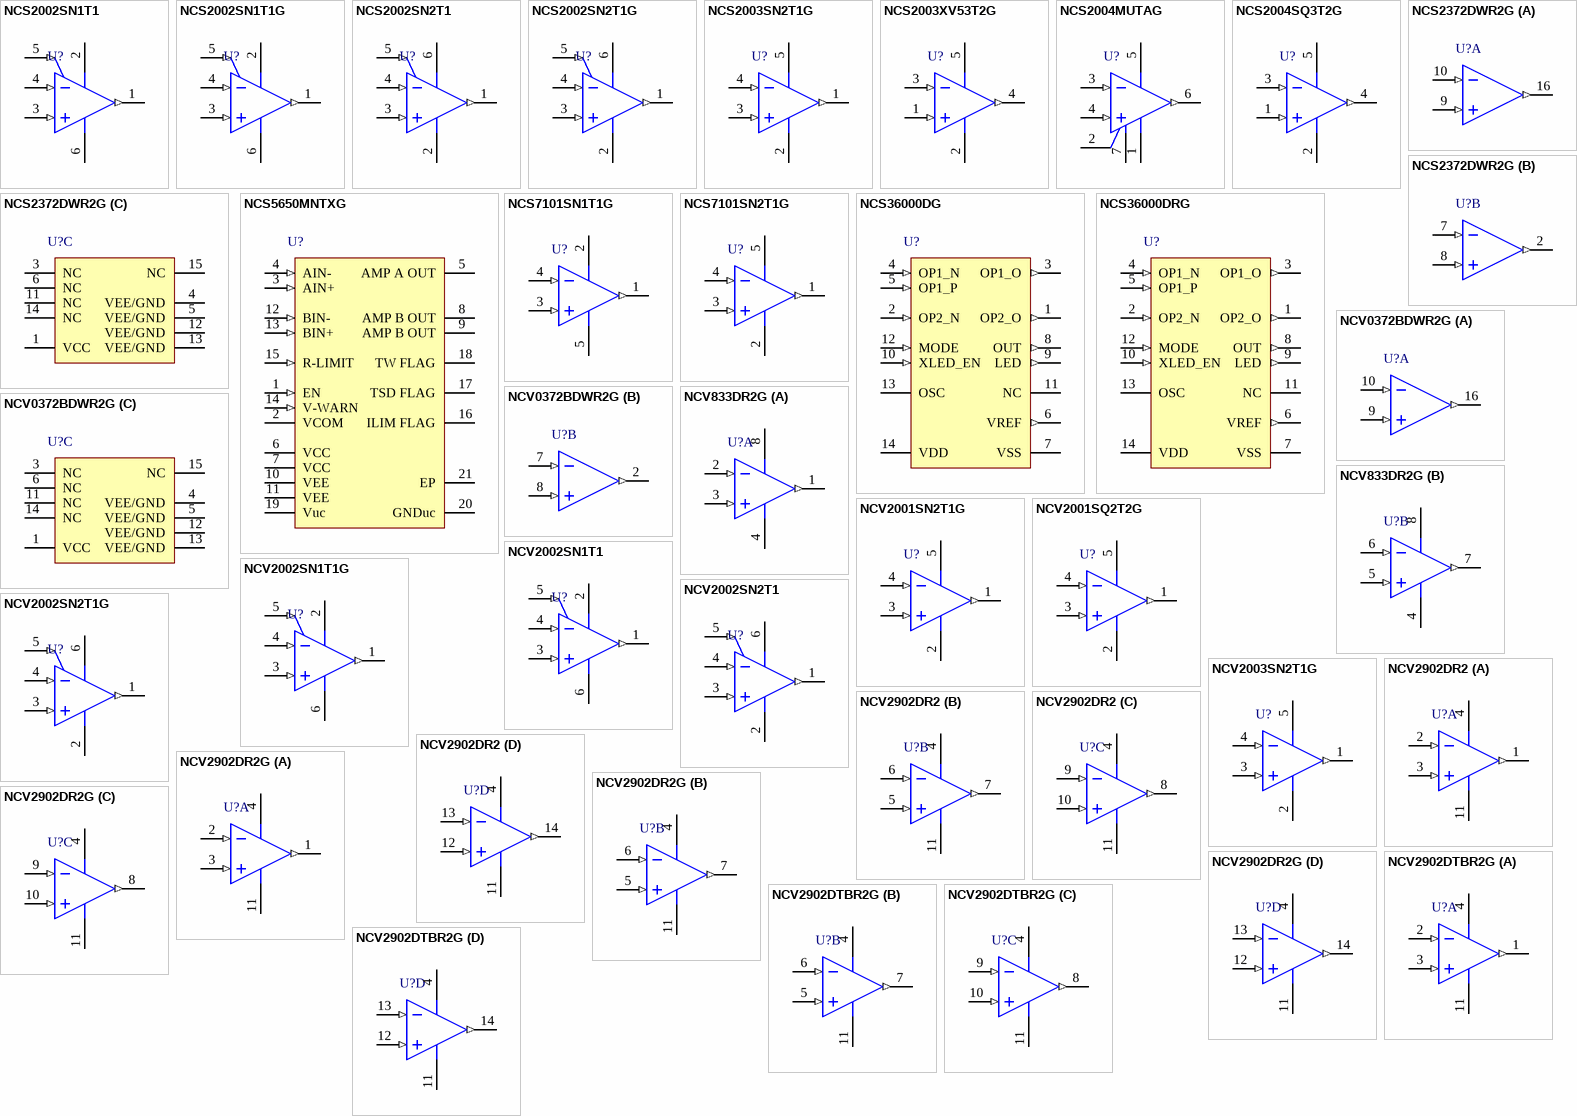
[diagram p19: symbols NCS2002SN1T1 to NCV2902DTBR2G]

## NCS2002SN1T1
designator U?
Sub-One Volt Rail-to-Rail Operational Amplifier with Enable Feature, 0.9 to 7 V, -40 to 105 degC, 6-Pin TSOP, Tape and Reel; Manufacturer: On Semiconductor; PartNumber: NCS2002SN1T1; VCC Max (V): 7; VCC Min (V): 0.9; DatasheetVersion: Rev. 7; PackageVersion: Rev. V, 06/2012; PackageReference: TSOP-6-318G-02; PackageDescription: 6-Pin Small Outline Package, Body 3 x 1.5 mm, Pitch 0.95 mm; Supplier 1: Digi-Key; Supplier Part Number 1: NCS2002SN1T1OSTR-ND; Supplier 2: Digi-Key; Supplier Part Number 2: NCS2002SN1T1OSCT-ND; Packing: Tape and Reel; RoHS: FALSE; Mounting Technology: Surface Mount; ComponentLink1Description: Manufacturer URL; ComponentLink1URL: http://www.onsemi.com/; ComponentLink2Description: Datasheet; ComponentLink2URL: http://www.onsemi.cn/pub_link/Collateral/NCS2002-D.PDF; ComponentLink3Description: Package Specification; ComponentLink3URL: http://www.onsemi.com/pub_link/Collateral/318G-02.PDF
footprint ONSC-TSOP-6-318G-02_V (SOP, 6-Leads, Body 3x1.5mm, Pitch 0.95mm)
pins: 1 VOUT (out), 2 VCC (power), 3 IN+ (in), 4 IN- (in), 5 EN (in), 6 VEE (power)

## NCS2002SN1T1G
designator U?
Sub-One Volt Rail-to-Rail Operational Amplifier with Enable Feature, 0.9 to 7 V, -40 to 105 degC, 6-Pin TSOP, Pb-Free, Tape and Reel; Manufacturer: On Semiconductor; PartNumber: NCS2002SN1T1G; VCC Max (V): 7; VCC Min (V): 0.9; DatasheetVersion: Rev. 7; PackageVersion: Rev. V, 06/2012; PackageReference: TSOP-6-318G-02; PackageDescription: 6-Pin Small Outline Package, Body 3 x 1.5 mm, Pitch 0.95 mm; Supplier 1: Digi-Key; Supplier Part Number 1: NCS2002SN1T1GOSTR-ND; Supplier 2: Digi-Key; Supplier Part Number 2: NCS2002SN1T1GOSCT-ND; Supplier 3: Digi-Key; Supplier Part Number 3: NCS2002SN1T1GOSDKR-ND; Supplier 4: Newark; Supplier Part Number 4: 26K4985; Supplier 5: Mouser; Supplier Part Number 5: 863-NCS2002SN1T1G; Packing: Tape and Reel; RoHS: TRUE; Mounting Technology: Surface Mount; ComponentLink1Description: Manufacturer URL; ComponentLink1URL: http://www.onsemi.com/; ComponentLink2Description: Datasheet; ComponentLink2URL: http://www.onsemi.cn/pub_link/Collateral/NCS2002-D.PDF; ComponentLink3Description: Package Specification; ComponentLink3URL: http://www.onsemi.com/pub_link/Collateral/318G-02.PDF
footprint ONSC-TSOP-6-318G-02_V (SOP, 6-Leads, Body 3x1.5mm, Pitch 0.95mm)
pins: 1 VOUT (out), 2 VCC (power), 3 IN+ (in), 4 IN- (in), 5 EN (in), 6 VEE (power)

## NCS2002SN2T1
designator U?
Sub-One Volt Rail-to-Rail Operational Amplifier with Enable Feature, 0.9 to 7 V, -40 to 105 degC, 6-Pin TSOP, Tape and Reel; Manufacturer: On Semiconductor; PartNumber: NCS2002SN2T1; VCC Max (V): 7; VCC Min (V): 0.9; DatasheetVersion: Rev. 7; PackageVersion: Rev. V, 06/2012; PackageReference: TSOP-6-318G-02; PackageDescription: 6-Pin Small Outline Package, Body 3 x 1.5 mm, Pitch 0.95 mm; Supplier 1: Digi-Key; Supplier Part Number 1: NCS2002SN2T1OSTR-ND; Supplier 2: Digi-Key; Supplier Part Number 2: NCS2002SN2T1OSCT-ND; Packing: Tape and Reel; RoHS: FALSE; Mounting Technology: Surface Mount; ComponentLink1Description: Manufacturer URL; ComponentLink1URL: http://www.onsemi.com/; ComponentLink2Description: Datasheet; ComponentLink2URL: http://www.onsemi.cn/pub_link/Collateral/NCS2002-D.PDF; ComponentLink3Description: Package Specification; ComponentLink3URL: http://www.onsemi.com/pub_link/Collateral/318G-02.PDF
footprint ONSC-TSOP-6-318G-02_V (SOP, 6-Leads, Body 3x1.5mm, Pitch 0.95mm)
pins: 1 VOUT (out), 2 VEE (power), 3 IN+ (in), 4 IN- (in), 5 EN (in), 6 VCC (power)

## NCS2002SN2T1G
designator U?
Sub-One Volt Rail-to-Rail Operational Amplifier with Enable Feature, 0.9 to 7 V, -40 to 105 degC, 6-Pin TSOP, Pb-Free, Tape and Reel; Manufacturer: On Semiconductor; PartNumber: NCS2002SN2T1G; VCC Max (V): 7; VCC Min (V): 0.9; DatasheetVersion: Rev. 7; PackageVersion: Rev. V, 06/2012; PackageReference: TSOP-6-318G-02; PackageDescription: 6-Pin Small Outline Package, Body 3 x 1.5 mm, Pitch 0.95 mm; Supplier 1: Digi-Key; Supplier Part Number 1: NCS2002SN2T1GOSTR-ND; Supplier 2: Digi-Key; Supplier Part Number 2: NCS2002SN2T1GOSCT-ND; Supplier 3: Mouser; Supplier Part Number 3: 863-NCS2002SN2T1G; Packing: Tape and Reel; RoHS: TRUE; Mounting Technology: Surface Mount; ComponentLink1Description: Manufacturer URL; ComponentLink1URL: http://www.onsemi.com/; ComponentLink2Description: Datasheet; ComponentLink2URL: http://www.onsemi.cn/pub_link/Collateral/NCS2002-D.PDF; ComponentLink3Description: Package Specification; ComponentLink3URL: http://www.onsemi.com/pub_link/Collateral/318G-02.PDF
footprint ONSC-TSOP-6-318G-02_V (SOP, 6-Leads, Body 3x1.5mm, Pitch 0.95mm)
pins: 1 VOUT (out), 2 VEE (power), 3 IN+ (in), 4 IN- (in), 5 EN (in), 6 VCC (power)

## NCS2003SN2T1G
designator U?
Low Voltage, Rail-to-Rail Output Operational Amplifier, 1.7 to 5.5 V, -40 to 85 degC, 5-Pin TSOP, Pb-Free, Tape and Reel; Manufacturer: On Semiconductor; PartNumber: NCS2003SN2T1G; VCC Max (V): 5.5; VCC Min (V): 1.7; DatasheetVersion: Rev. 3; PackageVersion: Rev. K, 04/2013; PackageReference: TSOP-5-483-02; PackageDescription: 5-Pin Small Outline Package, Body 3 x 1.5 mm, Pitch 0.95 mm; Supplier 1: Digi-Key; Supplier Part Number 1: NCS2003SN2T1GOSTR-ND; Supplier 2: Digi-Key; Supplier Part Number 2: NCS2003SN2T1GOSCT-ND; Supplier 3: Digi-Key; Supplier Part Number 3: NCS2003SN2T1GOSDKR-ND; Supplier 4: Newark; Supplier Part Number 4: 97W6218; Supplier 5: Newark; Supplier Part Number 5: 28X4855; Supplier 6: Mouser; Supplier Part Number 6: 863-NCS2003SN2T1G; Packing: Tape and Reel; RoHS: TRUE; Mounting Technology: Surface Mount; ComponentLink1Description: Manufacturer URL; ComponentLink1URL: http://www.onsemi.com/; ComponentLink2Description: Datasheet; ComponentLink2URL: http://www.onsemi.cn/pub_link/Collateral/NCS2003-D.PDF; ComponentLink3Description: Package Specification; ComponentLink3URL: http://www.onsemi.com/pub_link/Collateral/483.PDF
footprint ONSC-TSOP-5-483-02_V (SOP, 5-Leads, Body 3x1.5mm, Pitch 0.95mm)
pins: 1 VOUT (out), 2 VSS (power), 3 IN+ (in), 4 IN- (in), 5 VDD (power)

## NCS2003XV53T2G
designator U?
Low Voltage, Rail-to-Rail Output Operational Amplifier, 1.7 to 5.5 V, -40 to 85 degC, 5-Pin SOT-553, Pb-Free, Tape and Reel; Manufacturer: On Semiconductor; PartNumber: NCS2003XV53T2G; VCC Max (V): 5.5; VCC Min (V): 1.7; DatasheetVersion: Rev. 3; PackageVersion: Rev. C, 03/2013; PackageReference: SOT-553-5-463B; PackageDescription: 5-Pin Small Outline Transistor, Body 1.6 x 1.2 mm, Pitch 0.5 mm; Supplier 1: Digi-Key; Supplier Part Number 1: NCS2003XV53T2G-ND; Supplier 2: Newark; Supplier Part Number 2: 28X7993; Supplier 3: Mouser; Supplier Part Number 3: 863-NCS2003XV53T2G; Packing: Tape and Reel; RoHS: TRUE; Mounting Technology: Surface Mount; ComponentLink1Description: Manufacturer URL; ComponentLink1URL: http://www.onsemi.com/; ComponentLink2Description: Datasheet; ComponentLink2URL: http://www.onsemi.cn/pub_link/Collateral/NCS2003-D.PDF; ComponentLink3Description: Package Specification; ComponentLink3URL: http://www.onsemi.com/pub_link/Collateral/463B-01.PDF
footprint ONSC-SOT-553-5-463B_V (SOT23, 5-Leads, Body 1.6x1.2mm, Pitch 0.5mm)
pins: 1 IN+ (in), 2 VSS (power), 3 IN- (in), 4 OUT (out), 5 VDD (power)

## NCS2004MUTAG
designator U?
3.5 MHz, Wide Supply, Rail-to-Rail Output Operational Amplifier, 2.5 to 16 V, -40 to 105 degC, 6-Pin UDFN, Pb-Free, Tape and Reel; Manufacturer: On Semiconductor; PartNumber: NCS2004MUTAG; VCC Max (V): 16; VCC Min (V): 2.5; DatasheetVersion: Rev. 7; PackageVersion: Rev. O, 10/2007; PackageReference: UDFN-6-517AP-01; PackageDescription: 6-Pin Small Outline No-Lead, Body 1.6 x 1.6 mm, Pitch 0.5 mm; Supplier 1: Digi-Key; Supplier Part Number 1: NCS2004MUTAG-ND; Supplier 2: Mouser; Supplier Part Number 2: 863-NCS2004MUTAG; Packing: Tape and Reel; RoHS: TRUE; Mounting Technology: Surface Mount; ComponentLink1Description: Manufacturer URL; ComponentLink1URL: http://www.onsemi.com/; ComponentLink2Description: Datasheet; ComponentLink2URL: http://www.onsemi.cn/pub_link/Collateral/NCS2004-D.PDF; ComponentLink3Description: Package Specification; ComponentLink3URL: http://www.onsemi.com/pub_link/Collateral/517AP.PDF
footprint ONSC-UDFN-6-517AP-01_V (SON, 6-Leads, Body 1.6x1.6mm, Pitch 0.5mm, Thermal Pad 1.26x0.61mm)
pins: 1 VSS (power), 2 NC, 3 IN- (in), 4 IN+ (in), 5 VDD (power), 6 OUT (out), 7 EP

## NCS2004SQ3T2G
designator U?
3.5 MHz, Wide Supply, Rail-to-Rail Output Operational Amplifier, 2.5 to 16 V, -40 to 105 degC, 5-Pin SC70, Pb-Free, Tape and Reel; Manufacturer: On Semiconductor; PartNumber: NCS2004SQ3T2G; VCC Max (V): 16; VCC Min (V): 2.5; DatasheetVersion: Rev. 7; PackageVersion: Rev. K, 07/2010; PackageReference: SC70-5-419A-02_K; PackageDescription: 5-Pin Small Outline Transistor, Body 2 x 1.25 mm, Pitch 0.65 mm; Supplier 1: Digi-Key; Supplier Part Number 1: NCS2004SQ3T2GOSTR-ND; Supplier 2: Digi-Key; Supplier Part Number 2: NCS2004SQ3T2GOSCT-ND; Supplier 3: Digi-Key; Supplier Part Number 3: NCS2004SQ3T2GOSDKR-ND; Supplier 4: Farnell; Supplier Part Number 4: 2137886; Supplier 5: Mouser; Supplier Part Number 5: 863-NCS2004SQ3T2G; Packing: Tape and Reel; RoHS: TRUE; Mounting Technology: Surface Mount; ComponentLink1Description: Manufacturer URL; ComponentLink1URL: http://www.onsemi.com/; ComponentLink2Description: Datasheet; ComponentLink2URL: http://www.onsemi.cn/pub_link/Collateral/NCS2004-D.PDF; ComponentLink3Description: Package Specification; ComponentLink3URL: http://www.onsemi.cn/pub_link/Collateral/LMV821-D.PDF
footprint ONSC-SC70-5-419A-02_K_N (SOT23, 5-Leads, Body 2.2x1.35mm, Pitch 0.65mm, IPC Medium Density)
footprint ONSC-SC70-5-419A-02_K_L (SOT23, 5-Leads, Body 2.2x1.35mm, Pitch 0.65mm, IPC High Density)
footprint ONSC-SC70-5-419A-02_K_M (SOT23, 5-Leads, Body 2.2x1.35mm, Pitch 0.65mm, IPC Low Density)
pins: 1 IN+ (in), 2 VSS (power), 3 IN- (in), 4 OUT (out), 5 VDD (power)

## NCS2372DWR2G
designator U?
1.0 A Output Current, Dual Power Operational Amplifier, -40 to 125 degC, 16-Pin SOIC, Pb-Free, Tape and Reel; Manufacturer: On Semiconductor; PartNumber: NCS2372DWR2G; GBW Typ (MHz): 1.4; DatasheetVersion: Rev. 1; PackageVersion: Rev. D, 02/2013; PackageReference: SOIC-16-751G-03; PackageDescription: 16-Pin Small Outline Integrated Circuit, Body 10.3 x 7.5 mm, Pitch 1.27 mm; Supplier 1: Mouser; Supplier Part Number 1: 863-NCS2372DWR2G; Packing: Tape and Reel; RoHS: TRUE; SR Typ (V/uS): 1.4; Mounting Technology: Surface Mount; ComponentLink1Description: Manufacturer URL; ComponentLink1URL: http://www.onsemi.com/; ComponentLink2Description: Datasheet; ComponentLink2URL: http://www.onsemi.cn/pub_link/Collateral/NCS2372-D.PDF; ComponentLink3Description: Package Specification; ComponentLink3URL: http://www.onsemi.com/pub_link/Collateral/751G-03.PDF
footprint ONSC-SOIC-16-751G-03_V (SOIC, 16-Leads, Body 10.45x7.6mm, Pitch 1.27mm)
part A pins: 9 INA+ (in), 10 INA- (in), 16 OUTA (out)
part B pins: 2 OUTB (out), 7 INB- (in), 8 INB+ (in)
part C pins: 1 VCC (power), 3 NC, 4 VEE/GND (power), 5 VEE/GND (power), 6 NC, 11 NC, 12 VEE/GND (power), 13 VEE/GND (power), 14 NC, 15 NC

## NCS5650MNTXG
designator U?
2 Amp PLC Line Driver, 6 to 12 V, -40 to 125 degC, 20-Pin QFN, Pb-Free, Tape and Reel; Manufacturer: On Semiconductor; PartNumber: NCS5650MNTXG; VCC Max (V): 12; VCC Min (V): 6; DatasheetVersion: Rev. 1; PackageVersion: Rev. B, 10/2010; PackageReference: QFN-20-485E-01; PackageDescription: 20-Pin Quad Flat No-Lead, Body 4 x 4 mm, Pitch 0.5 mm; Supplier 1: Digi-Key; Supplier Part Number 1: NCS5650MNTXGOSTR-ND; Supplier 2: Digi-Key; Supplier Part Number 2: NCS5650MNTXGOSCT-ND; Supplier 3: Digi-Key; Supplier Part Number 3: NCS5650MNTXGOSDKR-ND; Supplier 4: Mouser; Supplier Part Number 4: 863-NCS5650MNTXG; Packing: Tape and Reel; RoHS: TRUE; Mounting Technology: Surface Mount; ComponentLink1Description: Manufacturer URL; ComponentLink1URL: http://www.onsemi.com/; ComponentLink2Description: Datasheet; ComponentLink2URL: http://www.onsemi.cn/pub_link/Collateral/NCS5650-D.PDF; ComponentLink3Description: Package Specification; ComponentLink3URL: http://www.onsemi.com/pub_link/Collateral/485E-01.PDF
footprint ONSC-QFN-20-485E-01_V (QFN, 20-Leads, Body 4x4mm, Pitch 0.5mm, Thermal Pad 2.88x2.88mm)
pins: 1 EN (in) "Enable/ Shutdown Input (Low = Enable)", 2 VCOM "Virtual Common at (VCC - VEE)/2; not to be used as a reference. (See Note 1 Below)", 3 AIN+ (in) "Positive (+) Input of Op Amp A", 4 AIN- (in) "Negative (-) Input of Op Amp A", 5 AMP A OUT (hiz) "Output of Op Amp A", 6 VCC (power) "Positive supply for amplifiers", 7 VCC (power) "Positive supply for amplifiers", 8 AMP B OUT (hiz) "Output of Op Amp B", 9 AMP B OUT (hiz) "Output of Op Amp B", 10 VEE (power) "Negative supply for amplifiers", 11 VEE (power) "Negative supply for amplifiers", 12 BIN- (in) "Negative (-) Input of Op Amp B", 13 BIN+ (in) "Positive (+) Input of Op Amp B", 14 V-WARN (in) "Thermal Warming Temp is set by a voltage determined by the ratio of two resistors (see Figure 8).", 15 R-LIMIT (in) "Output B Current Limit Set Resistor (R-Limit) to Pin 10, VEE + 1.92 V", 16 ILIM FLAG (hiz) "Current Limit Flag (High indicates Output Current >= limit set by R-Limit)", 17 TSD FLAG (hiz) "Thermal Shutdown Flag (High indicates Junction Temperature >= 150degreesC)", 18 TW FLAG (hiz) "Thermal Warning Flag (High indicates Junction Temperature >= threshold set by V-Warn)", 19 Vuc (power) "Digital supply for logic flag thresholds", 20 GNDuc (power) "Digital ground for logic flag thresholds", 21 EP "The exposed pad should be connected to the lowest voltage potential in the circuit."

## NCS7101SN1T1G
designator U?
Rail-to-Rail Operational Amplifier, 1.8 to 10 V, -40 to 85 degC, 5-Pin TSOP, Pb-Free, Tape and Reel; Manufacturer: On Semiconductor; PartNumber: NCS7101SN1T1G; GBW Typ (MHz): 1; SR Typ (V/uS): 1.2; VCC Max (V): 10; VCC Min (V): 1.8; DatasheetVersion: Rev. 4; PackageVersion: Rev. K, 04/2013; PackageReference: TSOP-5-483-02; PackageDescription: 5-Pin Small Outline Package, Body 3 x 1.5 mm, Pitch 0.95 mm; Supplier 1: Digi-Key; Supplier Part Number 1: NCS7101SN1T1GOSTR-ND; Supplier 2: Digi-Key; Supplier Part Number 2: NCS7101SN1T1GOSCT-ND; Supplier 3: Digi-Key; Supplier Part Number 3: NCS7101SN1T1GOSDKR-ND; Supplier 4: Newark; Supplier Part Number 4: 83H7675; Supplier 5: Mouser; Supplier Part Number 5: 863-NCS7101SN1T1G; Packing: Tape and Reel; RoHS: TRUE; Mounting Technology: Surface Mount; ComponentLink1Description: Manufacturer URL; ComponentLink1URL: http://www.onsemi.com/; ComponentLink2Description: Datasheet; ComponentLink2URL: http://www.onsemi.cn/pub_link/Collateral/NCS7101-D.PDF; ComponentLink3Description: Package Specification; ComponentLink3URL: http://www.onsemi.com/pub_link/Collateral/483.PDF
footprint ONSC-TSOP-5-483-02_V (SOP, 5-Leads, Body 3x1.5mm, Pitch 0.95mm)
pins: 1 VOUT (out), 2 VCC (power), 3 IN+ (in), 4 IN- (in), 5 VEE (power)

## NCS7101SN2T1G
designator U?
Rail-to-Rail Operational Amplifier, 1.8 to 10 V, -40 to 85 degC, 5-Pin TSOP, Pb-Free, Tape and Reel; Manufacturer: On Semiconductor; PartNumber: NCS7101SN2T1G; GBW Typ (MHz): 1; SR Typ (V/uS): 1.2; VCC Max (V): 10; VCC Min (V): 1.8; DatasheetVersion: Rev. 4; PackageVersion: Rev. K, 04/2013; PackageReference: TSOP-5-483-02; PackageDescription: 5-Pin Small Outline Package, Body 3 x 1.5 mm, Pitch 0.95 mm; Supplier 1: Digi-Key; Supplier Part Number 1: NCS7101SN2T1GOSTR-ND; Supplier 2: Digi-Key; Supplier Part Number 2: NCS7101SN2T1GOSCT-ND; Supplier 3: Digi-Key; Supplier Part Number 3: NCS7101SN2T1GOSDKR-ND; Supplier 4: Mouser; Supplier Part Number 4: 863-NCS7101SN2T1G; Packing: Tape and Reel; RoHS: TRUE; Mounting Technology: Surface Mount; ComponentLink1Description: Manufacturer URL; ComponentLink1URL: http://www.onsemi.com/; ComponentLink2Description: Datasheet; ComponentLink2URL: http://www.onsemi.cn/pub_link/Collateral/NCS7101-D.PDF; ComponentLink3Description: Package Specification; ComponentLink3URL: http://www.onsemi.com/pub_link/Collateral/483.PDF
footprint ONSC-TSOP-5-483-02_V (SOP, 5-Leads, Body 3x1.5mm, Pitch 0.95mm)
pins: 1 VOUT (out), 2 VEE (power), 3 IN+ (in), 4 IN- (in), 5 VCC (power)

## NCS36000DG
designator U?
Passive Infrared (PIR) Detector Controller, 3 to 5.75 V, -40 to 85 degC, 14-Pin SOIC, Pb-Free, Tube; Manufacturer: On Semiconductor; PartNumber: NCS36000DG; VCC Max (V): 5.75; VCC Min (V): 3; DatasheetVersion: Rev. 1; PackageVersion: Rev. H; PackageReference: SOIC-14-751A-03_H; PackageDescription: 14-Pin Small Outline Integrated Circuit, Body 8.65 x 3.9 mm, Pitch 1.27 mm; Supplier 1: Digi-Key; Supplier Part Number 1: NCS36000DG-ND; Supplier 2: Newark; Supplier Part Number 2: 52T8275; Supplier 3: Mouser; Supplier Part Number 3: 863-NCS36000DG; Packing: Tube; RoHS: TRUE; Mounting Technology: Surface Mount; ComponentLink1Description: Manufacturer URL; ComponentLink1URL: http://www.onsemi.com/; ComponentLink2Description: Datasheet; ComponentLink2URL: http://www.onsemi.cn/pub_link/Collateral/NCS36000-D.PDF; ComponentLink3Description: Package Specification; ComponentLink3URL: http://www.onsemi.com/pub_link/Collateral/MC74AC74-D.PDF
footprint ONSC-SOIC-14-751A-03_H_V (SOIC, 14-Leads, Body 8.75x4mm, Pitch 1.27mm)
pins: 1 OP2_O (out) "Output of second amplifier", 2 OP2_N (in) "Inverting input of second amplifier", 3 OP1_O (out) "Output of first amplifier", 4 OP1_N (in) "Inverting input of first amplifier", 5 OP1_P (in) "Non-inverting input of first amplifier", 6 VREF (out) "Regulated voltage reference to drive sensor", 7 VSS (power) "Analog ground reference.", 8 OUT (out) "CMOS output (10 mA Max)", 9 LED (out) "CMOS output to drive LED (10mA Max)", 10 XLED_EN (in) "Active low LED enable input", 11 NC "No Connect", 12 MODE (in) "Pin used to select pulse count mode", 13 OSC "External oscillator to control clock frequency", 14 VDD (power) "Analog power supply"

## NCS36000DRG
designator U?
Passive Infrared (PIR) Detector Controller, 3 to 5.75 V, -40 to 85 degC, 14-Pin SOIC, Pb-Free, Tape and Reel; Manufacturer: On Semiconductor; PartNumber: NCS36000DRG; VCC Max (V): 5.75; VCC Min (V): 3; DatasheetVersion: Rev. 1; PackageVersion: Rev. H; PackageReference: SOIC-14-751A-03_H; PackageDescription: 14-Pin Small Outline Integrated Circuit, Body 8.65 x 3.9 mm, Pitch 1.27 mm; Supplier 1: Digi-Key; Supplier Part Number 1: NCS36000DRGOSTR-ND; Supplier 2: Digi-Key; Supplier Part Number 2: NCS36000DRGOSCT-ND; Supplier 3: Digi-Key; Supplier Part Number 3: NCS36000DRGOSDKR-ND; Supplier 4: Mouser; Supplier Part Number 4: 863-NCS36000DRG; Packing: Tape and Reel; RoHS: TRUE; Mounting Technology: Surface Mount; ComponentLink1Description: Manufacturer URL; ComponentLink1URL: http://www.onsemi.com/; ComponentLink2Description: Datasheet; ComponentLink2URL: http://www.onsemi.cn/pub_link/Collateral/NCS36000-D.PDF; ComponentLink3Description: Package Specification; ComponentLink3URL: http://www.onsemi.com/pub_link/Collateral/MC74AC74-D.PDF
footprint ONSC-SOIC-14-751A-03_H_V (SOIC, 14-Leads, Body 8.75x4mm, Pitch 1.27mm)
pins: 1 OP2_O (out) "Output of second amplifier", 2 OP2_N (in) "Inverting input of second amplifier", 3 OP1_O (out) "Output of first amplifier", 4 OP1_N (in) "Inverting input of first amplifier", 5 OP1_P (in) "Non-inverting input of first amplifier", 6 VREF (out) "Regulated voltage reference to drive sensor", 7 VSS (power) "Analog ground reference.", 8 OUT (out) "CMOS output (10 mA Max)", 9 LED (out) "CMOS output to drive LED (10mA Max)", 10 XLED_EN (in) "Active low LED enable input", 11 NC "No Connect", 12 MODE (in) "Pin used to select pulse count mode", 13 OSC "External oscillator to control clock frequency", 14 VDD (power) "Analog power supply"